# EAGLE library part ATECC608A (library ICs)
high-security cryptographic device 供給電圧: 2 〜 5.5 V 動作温度: - 40 C 〜 + 85 C 供給電流 - 最大: 14 mA 動作供給電流: 2 mA
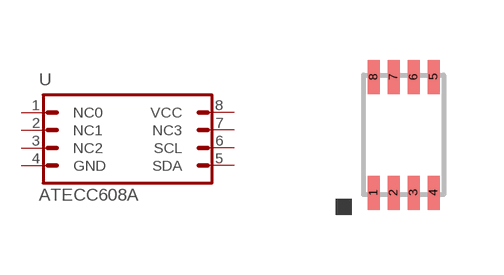
[diagram p0: symbol with the pads of DFN-2X3; footprint DFN-2X3]

Designator prefix U

## ATECC608A-MAHDA-S  [DFN-2X3]
1  NC0  pas
2  NC1  pas
3  NC2  pas
4  GND  pas
5  SDA
6  SCL
7  NC3  pas
8  VCC  pas

## Footprint DFN-2X3 (pad centres in mm)
8-Lead Plastic Dual Flat No Lead Package (MC) 2x3 mm Body (DFN)
smd 0.3 x 0.85: 1 -0.75,-1.45; 2 -0.25,-1.45; 3 0.25,-1.45; 4 0.75,-1.45; 5 0.75,1.45; 6 0.25,1.45; 7 -0.25,1.45; 8 -0.75,1.45